# Altium footprint library TK.PcbLib: 3 footprints
Each footprint in its own frame and in the unit in brackets; x right, y up, seen from the top. Pads: shape width x height; smd on the part's side, far side on the other; paste and mask are expansions set on the pad; w line width, h text height; cw(c..) or ccw(c..) is an arc to the next point about the centre after c.
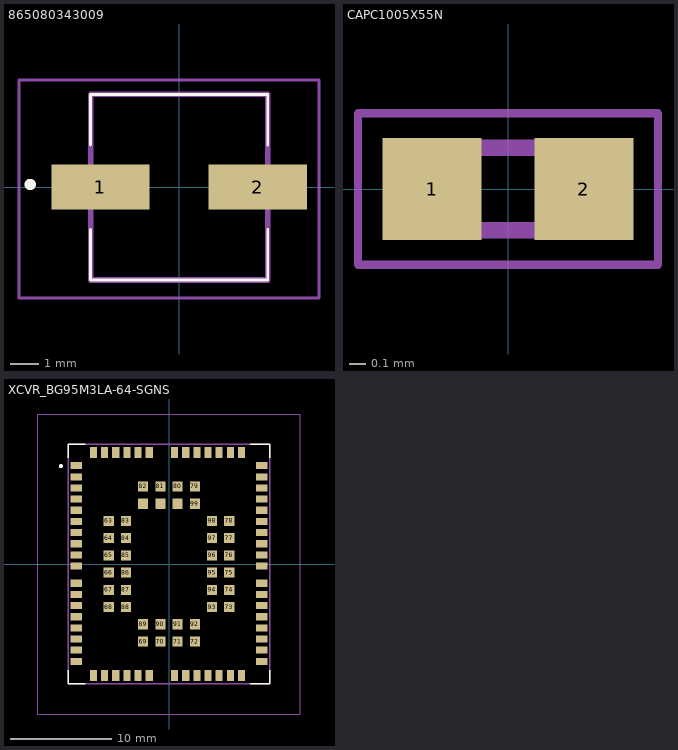
[diagram p0: the footprints below, top view; thin cyan lines are the x and y axes]

## 865080343009 [mm]
pads (2):
  rect 3.5x1.6 smd: 1(-2.8,0) 2(2.8,0)
Top Overlay:
  lines w0.1: -3.15,-1.5 -3.15,-3.3 3.15,-3.3 3.15,-1.5 ; -3.15,1.5 -3.15,3.3 3.15,3.3 3.15,1.5
  lines w0.2: -5.3,0 ccw(c-5.3,0.1) -5.3,0.2 ccw(c-5.3,0.1) -5.3,0
Mechanical 13:
  lines w0.2: -3.15,-3.3 -3.15,3.3 3.15,3.3 3.15,-3.3 -3.15,-3.3
Mechanical 15:
  lines w0.1: -5.697,-3.937 -5.697,3.81 4.971,3.81 4.971,-3.937 -5.697,-3.937
3D body "865080343009.stp": height 5.5, standoff 0, extent -3.655,-3.3 3.645,3.3

## CAPC1005X55N [mm]
pads (2):
  rect 0.6x0.62 smd: 1(-0.46,0) 2(0.46,0)
Mechanical 13:
  lines w0.1: -0.5,-0.25 0.5,-0.25 0.5,0.25 -0.5,0.25 -0.5,-0.25
Mechanical 15:
  lines w0.05: -0.91,-0.46 0.91,-0.46 0.91,0.46 -0.91,0.46 -0.91,-0.46
3D body "CL05B104KP5NNNC.stp": height 0.55, standoff 0, extent -0.5,-0.25 0.5,0.25

## XCVR_BG95M3LA-64-SGNS [mm]
pads (102):
  rect 1.1x0.7 smd paste-2: 1(-9.15,9.7) 2(-9.15,8.6) 3(-9.15,7.5) 4(-9.15,6.4) 5(-9.15,5.3) 6(-9.15,4.2) 7(-9.15,3.1) 8(-9.15,2) 9(-9.15,0.9) 10(-9.15,-0.2) 11(-9.15,-1.9) 12(-9.15,-3) 13(-9.15,-4.1) 14(-9.15,-5.2) 15(-9.15,-6.3) 16(-9.15,-7.4) 17(-9.15,-8.5) 18(-9.15,-9.6) 32(9.15,-9.6) 33(9.15,-8.5) 34(9.15,-7.4) 35(9.15,-6.3) 36(9.15,-5.2) 37(9.15,-4.1) 38(9.15,-3) 39(9.15,-1.9) 40(9.15,-0.2) 41(9.15,0.9) 42(9.15,2) 43(9.15,3.1) 44(9.15,4.2) 45(9.15,5.3) 46(9.15,6.4) 47(9.15,7.5) 48(9.15,8.6) 49(9.15,9.7)
  rect 0.7x1.1 smd paste-2: 19(-7.45,-11) 20(-6.35,-11) 21(-5.25,-11) 22(-4.15,-11) 23(-3.05,-11) 24(-1.95,-11) 25(0.55,-11) 26(1.65,-11) 27(2.75,-11) 28(3.85,-11) 29(4.95,-11) 30(6.05,-11) 31(7.15,-11) 50(7.15,11) 51(6.05,11) 52(4.95,11) 53(3.85,11) 54(2.75,11) 55(1.65,11) 56(0.55,11) 57(-1.95,11) 58(-3.05,11) 59(-4.15,11) 60(-5.25,11) 61(-6.35,11) 62(-7.45,11)
  rect 1x1 smd paste-1: 63(-5.95,4.25) 64(-5.95,2.55) 65(-5.95,0.85) 66(-5.95,-0.85) 67(-5.95,-2.55) 68(-5.95,-4.25) 69(-2.55,-7.65) 70(-0.85,-7.65) 71(0.85,-7.65) 72(2.55,-7.65) 73(5.95,-4.25) 74(5.95,-2.55) 75(5.95,-0.85) 76(5.95,0.85) 77(5.95,2.55) 78(5.95,4.25) 79(2.55,7.65) 80(0.85,7.65) 81(-0.85,7.65) 82(-2.55,7.65) 83(-4.25,4.25) 84(-4.25,2.55) 85(-4.25,0.85) 86(-4.25,-0.85) 87(-4.25,-2.55) 88(-4.25,-4.25) 89(-2.55,-5.95) 90(-0.85,-5.95) 91(0.85,-5.95) 92(2.55,-5.95) 93(4.25,-4.25) 94(4.25,-2.55) 95(4.25,-0.85) 96(4.25,0.85) 97(4.25,2.55) 98(4.25,4.25) 99(2.55,5.95) 100(0.85,5.95) 101(-0.85,5.95) 102(-2.55,5.95)
Top Overlay:
  circle w0.2: c-10.67,9.66 r0.1
  lines w0.127: -9.95,-10.5 -9.95,-11.8 -8.25,-11.8 ; -9.95,10.5 -9.95,11.8 -8.25,11.8 ; 8,-11.8 9.95,-11.8 9.95,-10.5 ; 8,11.8 9.95,11.8 9.95,10.5
Top Paste:
  drawing of 102 lines, arcs and shapes, not listed
Mechanical 13:
  circle w0.2: c-10.67,9.66 r0.1
  lines w0.127: -9.95,-11.8 9.95,-11.8 9.95,11.8 -9.95,11.8 -9.95,-11.8
Mechanical 15:
  lines w0.05: -12.95,-14.8 -12.95,14.8 12.95,14.8 12.95,-14.8 -12.95,-14.8
3D body "step_temp.STEP": height 2.4, standoff 0, extent -9.95,-11.8 9.95,11.8